# Altium schematic symbol library SCH - POWER - MODULE - TI-TPS560200.SchLib: 1 symbol
Pins are listed as number, name and electrical type; pins without a type are passive.

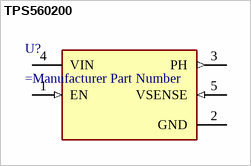
[diagram p0: symbol TPS560200]

## TPS560200
designator U?
*
pins: 1 EN (in), 2 GND (power), 3 PH (out), 4 VIN (power), 5 VSENSE (in)